# Altium footprint library LIDAR-Lite v2.PcbLib: 1 footprints
Each footprint in its own frame and in the unit in brackets; x right, y up, seen from the top. Pads: shape width x height; smd on the part's side, far side on the other; paste and mask are expansions set on the pad; w line width, h text height; cw(c..) or ccw(c..) is an arc to the next point about the centre after c.
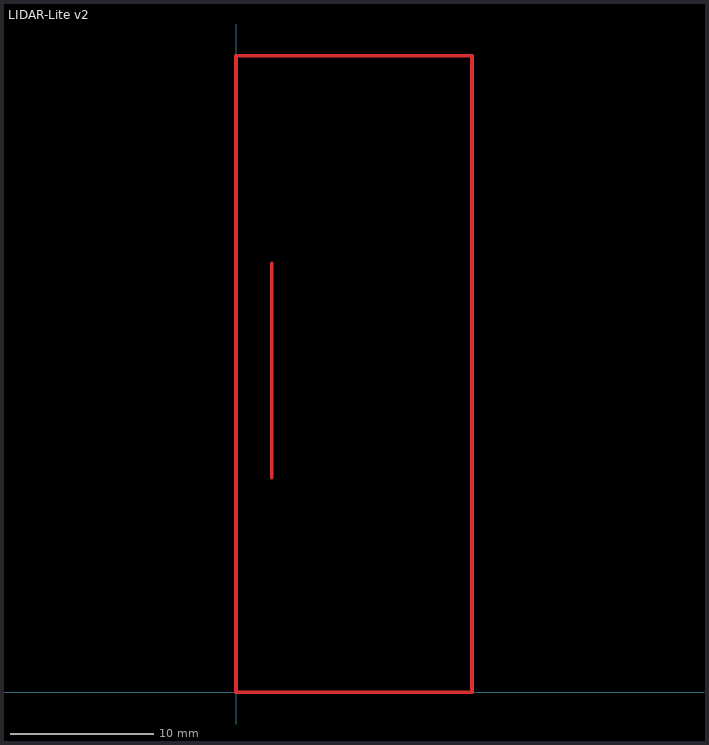
[diagram p0: the footprint, top view; thin cyan lines are the x and y axes]

## LIDAR-Lite v2 [mm]
Top Layer:
  lines w0.254: 2.5,15 2.5,30 ; 0,0 16.5,0 16.5,44.5 0,44.5 0,0